# EAGLE library part AS5306 (library SKAARHOJ)
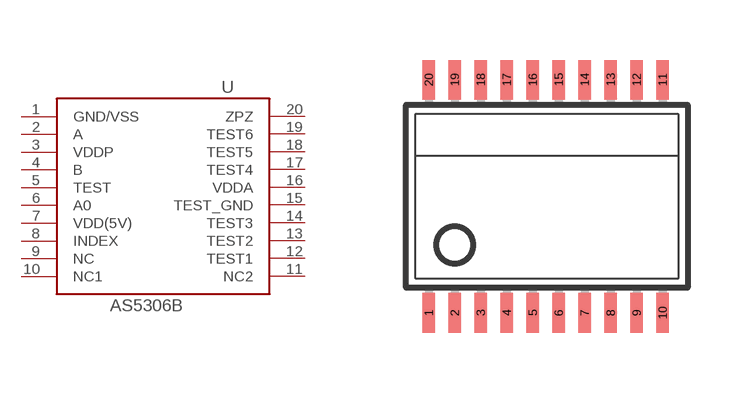
[diagram p42: symbol with the pads of TSSOP20_AS5304; footprint TSSOP20_AS5304]

Designator prefix -

## AS5306  [TSSOP20_AS5304]
1  GND/VSS  pwr
2  A  out
3  VDDP  pwr
4  B  out
5  TEST
6  A0  out
7  VDD(5V)  pwr
8  INDEX  out
9  NC  nc
10  NC1  nc
11  NC2  nc
12  TEST1
13  TEST2
14  TEST3
15  TEST_GND  pwr
16  VDDA  pwr
17  TEST4
18  TEST5
19  TEST6
20  ZPZ  in

## Footprint TSSOP20_AS5304 (pad centres in mm)
smd 0.305 x 0.991: 1 -2.925,-3.938; 2 -2.275,-3.938; 3 -1.625,-3.938; 4 -0.975,-3.938; 5 -0.325,-3.938; 6 0.325,-3.938; 7 0.975,-3.938; 8 1.625,-3.938; 9 2.275,-3.938; 10 2.925,-3.938; 11 2.925,1.898; 12 2.275,1.898; 13 1.625,1.898; 14 0.975,1.898; 15 0.325,1.898; 16 -0.325,1.898; 17 -0.975,1.898; 18 -1.625,1.898; 19 -2.275,1.898; 20 -2.925,1.898